# Altium schematic symbol library NSC Audio.SchLib: 691 symbols (part 1 of 18)
Pins are listed as number, name and electrical type; pins without a type are passive.

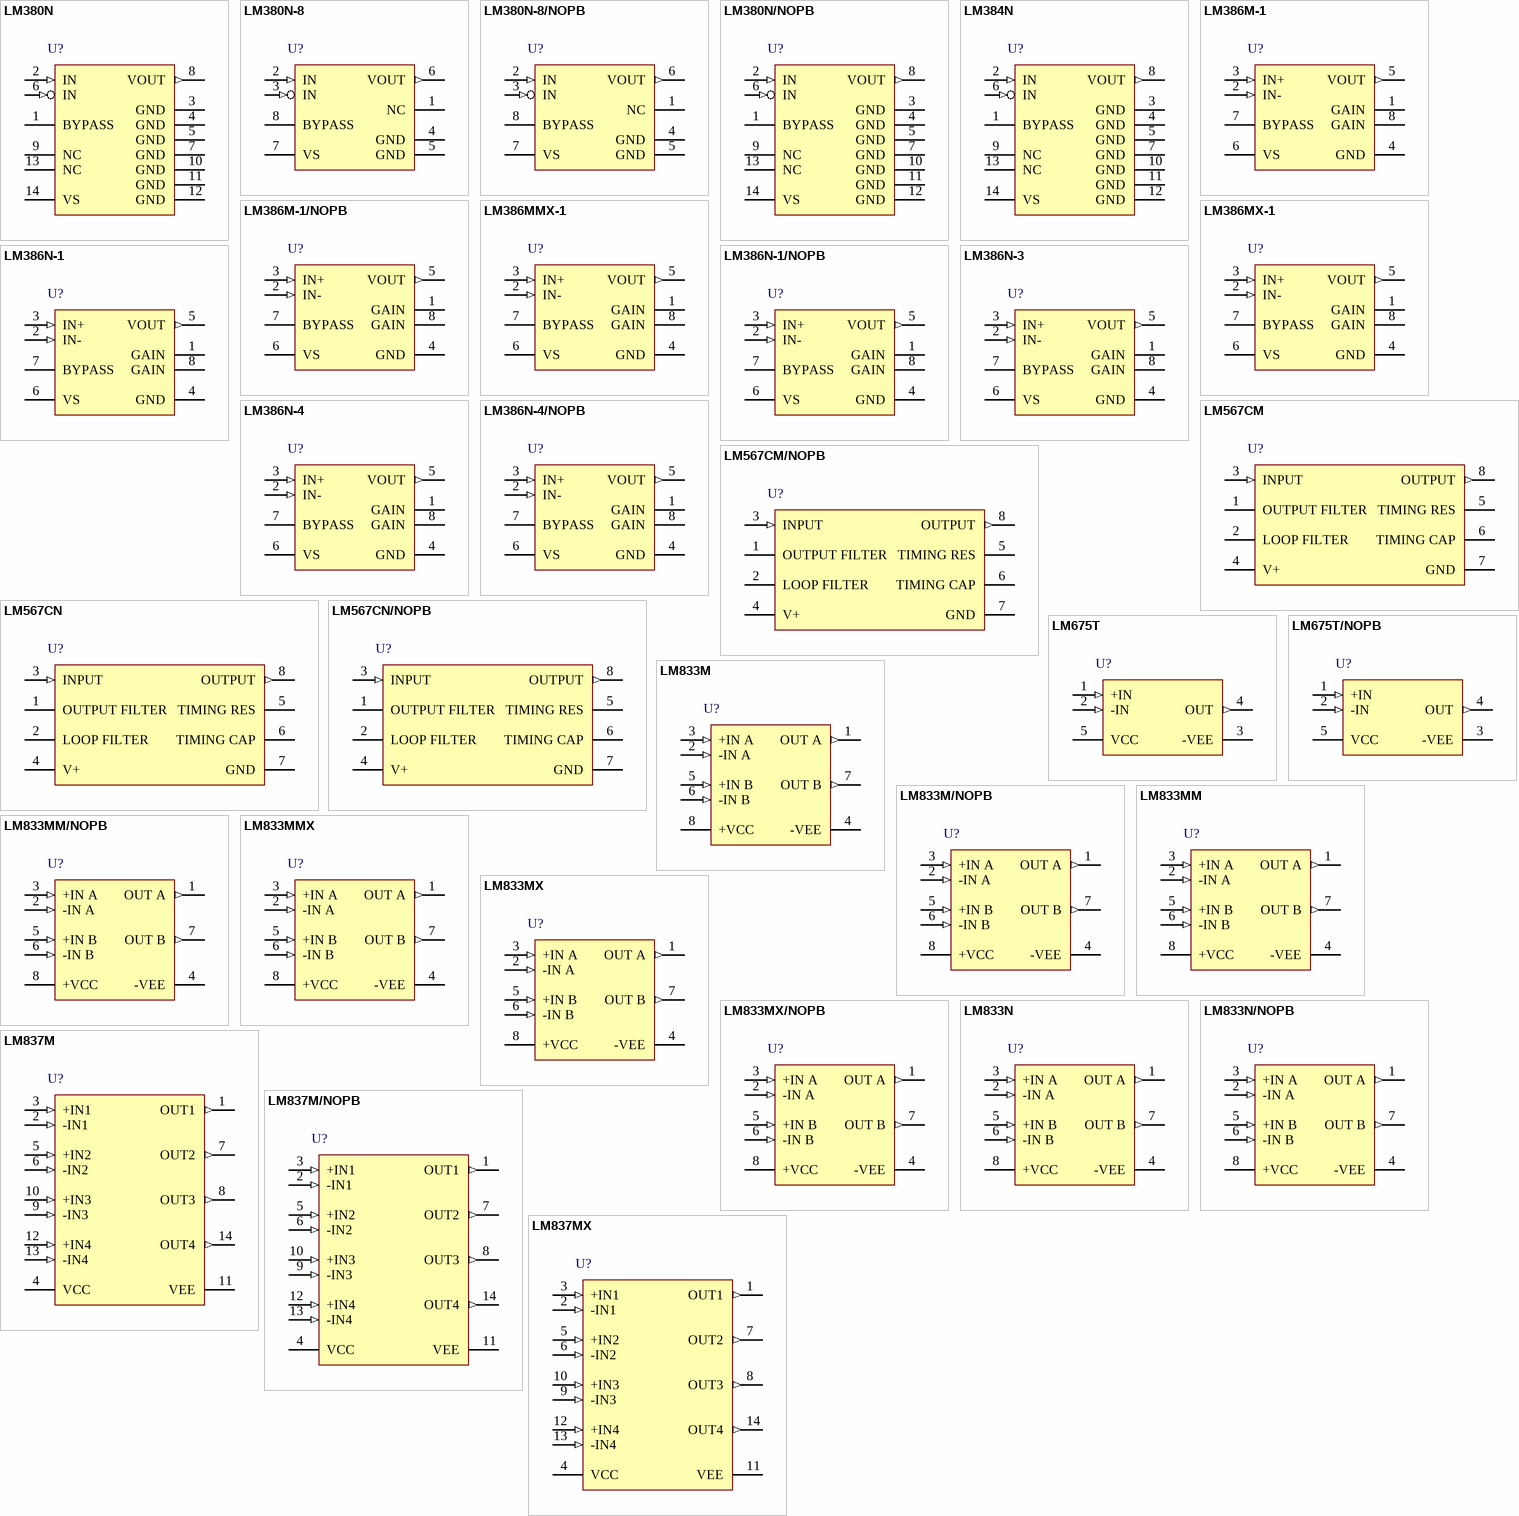
[diagram p0: symbols LM380N to LM837MX]

## LM380N
designator U?
2.5W Audio Power Amplifier, 14-pin MDIP; PartNumber: LM380N; Manufacturer: National Semiconductor; PackageTopMarking: NSUZXYYTTE#*LM380N; PowerWise: N; CompType: Audio IC; Published: 4-Dec-2008; DatasheetVersion: Aug-2000; PackageVersion: revG, May-2006; PackageReference: N14A; Publisher: Altium Limited; PackageDescription: MDIP, .750 x .250 x.130in, 14 Lead, .100in Pitch; Supplier 1: Farnell; Supplier Part Number 1: 9488308; RoHS: N; PinCount: 14; Code_JEDEC: MS-001-AA; ComponentLink1Description: LM380 Datasheet; ComponentLink1URL: http://www.national.com/ds/LM/LM380.pdf; ComponentLink2Description: LM380 Web Page; ComponentLink2URL: http://www.national.com/pf/LM/LM380.html; ComponentLink3Description: N14A Package Page; ComponentLink3URL: http://www.national.com/packaging/folders/n14a.html
footprint N14A (DIP, 14-Leads, Row Spacing 7.62mm, Pitch 2.54mm, Body 19.56x6.35mm)
pins: 1 BYPASS, 2 IN (in), 3 GND (power), 4 GND (power), 5 GND (power), 6 IN (in), 7 GND (power), 8 VOUT (out), 9 NC, 10 GND (power), 11 GND (power), 12 GND (power), 13 NC, 14 VS (power)

## LM380N-8
designator U?
2.5W Audio Power Amplifier, 8-pin MDIP; PartNumber: LM380N-8; Manufacturer: National Semiconductor; PackageTopMarking: NSUZXYTTE#*LM*380N-8; PowerWise: N; CompType: Audio IC; Published: 4-Dec-2008; DatasheetVersion: Aug-2000; PackageVersion: revG, May-2006; PackageReference: N08E; Publisher: Altium Limited; PackageDescription: MDIP, .365 x .250 x .130in, 8 Lead, .100in Pitch; Supplier 1: Farnell; Supplier Part Number 1: 9488294; RoHS: N; PinCount: 8; Code_JEDEC: MS-001-BA; ComponentLink1Description: LM380 Datasheet; ComponentLink1URL: http://www.national.com/ds/LM/LM380.pdf; ComponentLink2Description: LM380 Web Page; ComponentLink2URL: http://www.national.com/pf/LM/LM380.html; ComponentLink3Description: N08E Package Page; ComponentLink3URL: http://www.national.com/packaging/folders/n08e.html
footprint N08E (DIP, 8-Leads, Row Spacing 7.62mm, Pitch 2.54mm, Body 9.91x6.35mm)
pins: 1 NC, 2 IN (in), 3 IN (in), 4 GND (power), 5 GND (power), 6 VOUT (out), 7 VS (power), 8 BYPASS

## LM380N-8/NOPB
designator U?
2.5W Audio Power Amplifier, 8-pin MDIP, Pb-Free; PartNumber: LM380N-8/NOPB; Manufacturer: National Semiconductor; PackageTopMarking: NSUZXYTTE#*LM*380N-8; PowerWise: N; CompType: Audio IC; Published: 1-Mar-2010; DatasheetVersion: Aug-2000; PackageVersion: revG, May-2006; PackageReference: N08E; Publisher: Altium Limited; PackageDescription: MDIP, .365 x .250 x .130in, 8 Lead, .100in Pitch; Supplier 1: Digi-Key; Supplier Part Number 1: LM380N-8-ND; RoHS: Y; PinCount: 8; Code_JEDEC: MS-001-BA; ComponentLink1Description: LM380 Datasheet; ComponentLink1URL: http://www.national.com/ds/LM/LM380.pdf; ComponentLink2Description: LM380 Web Page; ComponentLink2URL: http://www.national.com/pf/LM/LM380.html; ComponentLink3Description: N08E Package Page; ComponentLink3URL: http://www.national.com/packaging/folders/n08e.html
footprint N08E (DIP, 8-Leads, Row Spacing 7.62mm, Pitch 2.54mm, Body 9.91x6.35mm)
pins: 1 NC, 2 IN (in), 3 IN (in), 4 GND (power), 5 GND (power), 6 VOUT (out), 7 VS (power), 8 BYPASS

## LM380N/NOPB
designator U?
2.5W Audio Power Amplifier, 14-pin MDIP, Pb-Free; PartNumber: LM380N/NOPB; Manufacturer: National Semiconductor; PackageTopMarking: NSUZXYYTTE#*LM380N; PowerWise: N; CompType: Audio IC; Published: 1-Mar-2010; DatasheetVersion: Aug-2000; PackageVersion: revG, May-2006; PackageReference: N14A; Publisher: Altium Limited; PackageDescription: MDIP, .750 x .250 x.130in, 14 Lead, .100in Pitch; Supplier 1: Digi-Key; Supplier Part Number 1: LM380N-ND; Supplier 2: Farnell; Supplier Part Number 2: 1179738; RoHS: Y; PinCount: 14; Code_JEDEC: MS-001-AA; ComponentLink1Description: LM380 Datasheet; ComponentLink1URL: http://www.national.com/ds/LM/LM380.pdf; ComponentLink2Description: LM380 Web Page; ComponentLink2URL: http://www.national.com/pf/LM/LM380.html; ComponentLink3Description: N14A Package Page; ComponentLink3URL: http://www.national.com/packaging/folders/n14a.html
footprint N14A (DIP, 14-Leads, Row Spacing 7.62mm, Pitch 2.54mm, Body 19.56x6.35mm)
pins: 1 BYPASS, 2 IN (in), 3 GND (power), 4 GND (power), 5 GND (power), 6 IN (in), 7 GND (power), 8 VOUT (out), 9 NC, 10 GND (power), 11 GND (power), 12 GND (power), 13 NC, 14 VS (power)

## LM384N
designator U?
5-W Audio Power Amplifier, 14-pin MDIP; PartNumber: LM384N; Manufacturer: National Semiconductor; PackageTopMarking: NSUZXYYTTE#*LM384N; PowerWise: N; CompType: Audio IC; Published: 4-Dec-2008; DatasheetVersion: Aug-2000; PackageVersion: revG, May-2006; PackageReference: N14A; Publisher: Altium Limited; PackageDescription: MDIP, .750 x .250 x.130in, 14 Lead, .100in Pitch; Supplier 1: Farnell; Supplier Part Number 1: 9488316; RoHS: N; PinCount: 14; Code_JEDEC: MS-001-AA; ComponentLink1Description: LM384 Datasheet; ComponentLink1URL: http://www.national.com/ds/LM/LM384.pdf; ComponentLink2Description: LM384 Web Page; ComponentLink2URL: http://www.national.com/pf/LM/LM384.html; ComponentLink3Description: N14A Package Page; ComponentLink3URL: http://www.national.com/packaging/folders/n14a.html
footprint N14A (DIP, 14-Leads, Row Spacing 7.62mm, Pitch 2.54mm, Body 19.56x6.35mm)
pins: 1 BYPASS, 2 IN (in), 3 GND (power), 4 GND (power), 5 GND (power), 6 IN (in), 7 GND (power), 8 VOUT (out), 9 NC, 10 GND (power), 11 GND (power), 12 GND (power), 13 NC, 14 VS (power)

## LM386M-1
designator U?
Low Voltage Audio Power Amplifier, 8-pin Narrow SOIC; PartNumber: LM386M-1; Manufacturer: National Semiconductor; PackageTopMarking: NSZXTT*LM386*M-1; PowerWise: N; CompType: Audio IC; Published: 4-Dec-2008; DatasheetVersion: Aug-2000; PackageVersion: revM, May-2009; PackageReference: M08A; Publisher: Altium Limited; PackageDescription: SOIC Narrow, 4.9 x 3.9 x 1.45mm, 8 Lead, 1.27mm Pitch; Supplier 1: Farnell; Supplier Part Number 1: 9488324; RoHS: N; PinCount: 8; Code_JEDEC: MS-012-AA; Code_IPC: SOIC127P600-8; ComponentLink1Description: LM386 Datasheet; ComponentLink1URL: http://www.national.com/ds/LM/LM386.pdf; ComponentLink2Description: LM386 Web Page; ComponentLink2URL: http://www.national.com/pf/LM/LM386.html; ComponentLink3Description: M08A Package Page; ComponentLink3URL: http://www.national.com/packaging/folders/m08a.html
footprint M08A_N (SOIC, 8-Leads, Body 4.9x3.9mm, Pitch 1.27mm, IPC Medium Density)
footprint M08A_L (SOIC, 8-Leads, Body 4.9x3.9mm, Pitch 1.27mm, IPC High Density)
footprint M08A_M (SOIC, 8-Leads, Body 4.9x3.9mm, Pitch 1.27mm, IPC Low Density)
pins: 1 GAIN, 2 IN- (in), 3 IN+ (in), 4 GND (power), 5 VOUT (out), 6 VS (power), 7 BYPASS, 8 GAIN

## LM386M-1/NOPB
designator U?
Low Voltage Audio Power Amplifier, 8-pin Narrow SOIC, Pb-Free; PartNumber: LM386M-1/NOPB; Manufacturer: National Semiconductor; PackageTopMarking: NSZXTT*LM386*M-1; PowerWise: N; CompType: Audio IC; Published: 1-Mar-2010; DatasheetVersion: Aug-2000; PackageVersion: revM, May-2009; PackageReference: M08A; Publisher: Altium Limited; PackageDescription: SOIC Narrow, 4.9 x 3.9 x 1.45mm, 8 Lead, 1.27mm Pitch; Supplier 1: Digi-Key; Supplier Part Number 1: LM386M-1-ND; Supplier 2: Farnell; Supplier Part Number 2: 1564701; RoHS: Y; PinCount: 8; Code_JEDEC: MS-012-AA; Code_IPC: SOIC127P600-8; ComponentLink1Description: LM386 Datasheet; ComponentLink1URL: http://www.national.com/ds/LM/LM386.pdf; ComponentLink2Description: LM386 Web Page; ComponentLink2URL: http://www.national.com/pf/LM/LM386.html; ComponentLink3Description: M08A Package Page; ComponentLink3URL: http://www.national.com/packaging/folders/m08a.html
footprint M08A_N (SOIC, 8-Leads, Body 4.9x3.9mm, Pitch 1.27mm, IPC Medium Density)
footprint M08A_L (SOIC, 8-Leads, Body 4.9x3.9mm, Pitch 1.27mm, IPC High Density)
footprint M08A_M (SOIC, 8-Leads, Body 4.9x3.9mm, Pitch 1.27mm, IPC Low Density)
pins: 1 GAIN, 2 IN- (in), 3 IN+ (in), 4 GND (power), 5 VOUT (out), 6 VS (power), 7 BYPASS, 8 GAIN

## LM386MMX-1
designator U?
Low Voltage Audio Power Amplifier, 8-pin Mini SOIC; PartNumber: LM386MMX-1; Manufacturer: National Semiconductor; PackageTopMarking: ZXTT*Z86; PowerWise: N; CompType: Audio IC; Published: 4-Dec-2008; DatasheetVersion: Aug-2000; PackageVersion: revF, Apr-2008; PackageReference: MUA08A; Publisher: Altium Limited; PackageDescription: MINI SOIC, .118 x .118 x .034in, 8 Lead, .0256in Pitch; RoHS: N; PinCount: 8; Code_JEDEC: MO-187-AA; ComponentLink1Description: LM386 Datasheet; ComponentLink1URL: http://www.national.com/ds/LM/LM386.pdf; ComponentLink2Description: LM386 Web Page; ComponentLink2URL: http://www.national.com/pf/LM/LM386.html; ComponentLink3Description: MUA08A Package Page; ComponentLink3URL: http://www.national.com/packaging/folders/mua08a.html
footprint MUA08A_N (TSOP, 8-Leads, Body 3x3mm, Pitch 0.65mm, IPC Medium Density)
footprint MUA08A_L (TSOP, 8-Leads, Body 3x3mm, Pitch 0.65mm, IPC High Density)
footprint MUA08A_M (TSOP, 8-Leads, Body 3x3mm, Pitch 0.65mm, IPC Low Density)
pins: 1 GAIN, 2 IN- (in), 3 IN+ (in), 4 GND (power), 5 VOUT (out), 6 VS (power), 7 BYPASS, 8 GAIN

## LM386MX-1
designator U?
Low Voltage Audio Power Amplifier, 8-pin Narrow SOIC; PartNumber: LM386MX-1; Manufacturer: National Semiconductor; PackageTopMarking: NSZXTT*LM386*M-1; PowerWise: N; CompType: Audio IC; Published: 1-Mar-2010; DatasheetVersion: Aug-2000; PackageVersion: revM, May-2009; PackageReference: M08A; Publisher: Altium Limited; PackageDescription: SOIC Narrow, 4.9 x 3.9 x 1.45mm, 8 Lead, 1.27mm Pitch; RoHS: N; PinCount: 8; Code_JEDEC: MS-012-AA; Code_IPC: SOIC127P600-8; ComponentLink1Description: LM386 Datasheet; ComponentLink1URL: http://www.national.com/ds/LM/LM386.pdf; ComponentLink2Description: LM386 Web Page; ComponentLink2URL: http://www.national.com/pf/LM/LM386.html; ComponentLink3Description: M08A Package Page; ComponentLink3URL: http://www.national.com/packaging/folders/m08a.html
footprint M08A_N (SOIC, 8-Leads, Body 4.9x3.9mm, Pitch 1.27mm, IPC Medium Density)
footprint M08A_L (SOIC, 8-Leads, Body 4.9x3.9mm, Pitch 1.27mm, IPC High Density)
footprint M08A_M (SOIC, 8-Leads, Body 4.9x3.9mm, Pitch 1.27mm, IPC Low Density)
pins: 1 GAIN, 2 IN- (in), 3 IN+ (in), 4 GND (power), 5 VOUT (out), 6 VS (power), 7 BYPASS, 8 GAIN

## LM386N-1
designator U?
Low Voltage Audio Power Amplifier, 8-pin MDIP; PartNumber: LM386N-1; Manufacturer: National Semiconductor; PackageTopMarking: NSUZXYTTE#*LM*386N-1; PowerWise: N; CompType: Audio IC; Published: 4-Dec-2008; DatasheetVersion: Aug-2000; PackageVersion: revG, May-2006; PackageReference: N08E; Publisher: Altium Limited; PackageDescription: MDIP, .365 x .250 x .130in, 8 Lead, .100in Pitch; Supplier 1: Farnell; Supplier Part Number 1: 9488332; RoHS: N; PinCount: 8; Code_JEDEC: MS-001-BA; ComponentLink1Description: LM386 Datasheet; ComponentLink1URL: http://www.national.com/ds/LM/LM386.pdf; ComponentLink2Description: LM386 Web Page; ComponentLink2URL: http://www.national.com/pf/LM/LM386.html; ComponentLink3Description: N08E Package Page; ComponentLink3URL: http://www.national.com/packaging/folders/n08e.html
footprint N08E (DIP, 8-Leads, Row Spacing 7.62mm, Pitch 2.54mm, Body 9.91x6.35mm)
pins: 1 GAIN, 2 IN- (in), 3 IN+ (in), 4 GND (power), 5 VOUT (out), 6 VS (power), 7 BYPASS, 8 GAIN

## LM386N-1/NOPB
designator U?
Low Voltage Audio Power Amplifier, 8-pin MDIP, Pb-Free; PartNumber: LM386N-1/NOPB; Manufacturer: National Semiconductor; PackageTopMarking: NSUZXYTTE#*LM*386N-1; PowerWise: N; CompType: Audio IC; Published: 1-Mar-2010; DatasheetVersion: Aug-2000; PackageVersion: revG, May-2006; PackageReference: N08E; Publisher: Altium Limited; PackageDescription: MDIP, .365 x .250 x .130in, 8 Lead, .100in Pitch; Supplier 1: Digi-Key; Supplier Part Number 1: LM386N-1-ND; Supplier 2: Farnell; Supplier Part Number 2: 1564702; RoHS: Y; PinCount: 8; Code_JEDEC: MS-001-BA; ComponentLink1Description: LM386 Datasheet; ComponentLink1URL: http://www.national.com/ds/LM/LM386.pdf; ComponentLink2Description: LM386 Web Page; ComponentLink2URL: http://www.national.com/pf/LM/LM386.html; ComponentLink3Description: N08E Package Page; ComponentLink3URL: http://www.national.com/packaging/folders/n08e.html
footprint N08E (DIP, 8-Leads, Row Spacing 7.62mm, Pitch 2.54mm, Body 9.91x6.35mm)
pins: 1 GAIN, 2 IN- (in), 3 IN+ (in), 4 GND (power), 5 VOUT (out), 6 VS (power), 7 BYPASS, 8 GAIN

## LM386N-3
designator U?
Low Voltage Audio Power Amplifier, 8-pin MDIP; PartNumber: LM386N-3; Manufacturer: National Semiconductor; PackageTopMarking: NSUZXYTTE#*LM*386N-3; PowerWise: N; CompType: Audio IC; Published: 4-Dec-2008; DatasheetVersion: Aug-2000; PackageVersion: revG, May-2006; PackageReference: N08E; Publisher: Altium Limited; PackageDescription: MDIP, .365 x .250 x .130in, 8 Lead, .100in Pitch; Supplier 1: Farnell; Supplier Part Number 1: 9488340; RoHS: N; PinCount: 8; Code_JEDEC: MS-001-BA; ComponentLink1Description: LM386 Datasheet; ComponentLink1URL: http://www.national.com/ds/LM/LM386.pdf; ComponentLink2Description: LM386 Web Page; ComponentLink2URL: http://www.national.com/pf/LM/LM386.html; ComponentLink3Description: N08E Package Page; ComponentLink3URL: http://www.national.com/packaging/folders/n08e.html
footprint N08E (DIP, 8-Leads, Row Spacing 7.62mm, Pitch 2.54mm, Body 9.91x6.35mm)
pins: 1 GAIN, 2 IN- (in), 3 IN+ (in), 4 GND (power), 5 VOUT (out), 6 VS (power), 7 BYPASS, 8 GAIN

## LM386N-4
designator U?
Low Voltage Audio Power Amplifier, 8-pin MDIP; PartNumber: LM386N-4; Manufacturer: National Semiconductor; PackageTopMarking: NSUZXYTTE#*LM*386N-4; PowerWise: N; CompType: Audio IC; Published: 4-Dec-2008; DatasheetVersion: Aug-2000; PackageVersion: revG, May-2006; PackageReference: N08E; Publisher: Altium Limited; PackageDescription: MDIP, .365 x .250 x .130in, 8 Lead, .100in Pitch; Supplier 1: Farnell; Supplier Part Number 1: 9488359; RoHS: N; PinCount: 8; Code_JEDEC: MS-001-BA; ComponentLink1Description: LM386 Datasheet; ComponentLink1URL: http://www.national.com/ds/LM/LM386.pdf; ComponentLink2Description: LM386 Web Page; ComponentLink2URL: http://www.national.com/pf/LM/LM386.html; ComponentLink3Description: N08E Package Page; ComponentLink3URL: http://www.national.com/packaging/folders/n08e.html
footprint N08E (DIP, 8-Leads, Row Spacing 7.62mm, Pitch 2.54mm, Body 9.91x6.35mm)
pins: 1 GAIN, 2 IN- (in), 3 IN+ (in), 4 GND (power), 5 VOUT (out), 6 VS (power), 7 BYPASS, 8 GAIN

## LM386N-4/NOPB
designator U?
Low Voltage Audio Power Amplifier, 8-pin MDIP, Pb-Free; PartNumber: LM386N-4/NOPB; Manufacturer: National Semiconductor; PackageTopMarking: NSUZXYTTE#*LM*386N-4; PowerWise: N; CompType: Audio IC; Published: 1-Mar-2010; DatasheetVersion: Aug-2000; PackageVersion: revG, May-2006; PackageReference: N08E; Publisher: Altium Limited; PackageDescription: MDIP, .365 x .250 x .130in, 8 Lead, .100in Pitch; Supplier 1: Digi-Key; Supplier Part Number 1: LM386N-4-ND; Supplier 2: Farnell; Supplier Part Number 2: 1184987; RoHS: Y; PinCount: 8; Code_JEDEC: MS-001-BA; ComponentLink1Description: LM386 Datasheet; ComponentLink1URL: http://www.national.com/ds/LM/LM386.pdf; ComponentLink2Description: LM386 Web Page; ComponentLink2URL: http://www.national.com/pf/LM/LM386.html; ComponentLink3Description: N08E Package Page; ComponentLink3URL: http://www.national.com/packaging/folders/n08e.html
footprint N08E (DIP, 8-Leads, Row Spacing 7.62mm, Pitch 2.54mm, Body 9.91x6.35mm)
pins: 1 GAIN, 2 IN- (in), 3 IN+ (in), 4 GND (power), 5 VOUT (out), 6 VS (power), 7 BYPASS, 8 GAIN

## LM567CM
designator U?
Tone Decoder, 8-pin Narrow SOIC; PartNumber: LM567CM; Manufacturer: National Semiconductor; PackageTopMarking: NSZXTT*LM*567CM; PowerWise: N; CompType: Audio IC; Published: 4-Dec-2008; DatasheetVersion: Feb-2003; PackageVersion: revM, May-2009; PackageReference: M08A; Publisher: Altium Limited; PackageDescription: SOIC Narrow, 4.9 x 3.9 x 1.45mm, 8 Lead, 1.27mm Pitch; Supplier 1: Digi-Key; Supplier Part Number 1: LM567CM-ND; RoHS: N; PinCount: 8; Code_JEDEC: MS-012-AA; Code_IPC: SOIC127P600-8; ComponentLink1Description: LM567C Datasheet; ComponentLink1URL: http://www.national.com/ds/LM/LM567C.pdf; ComponentLink2Description: LM567C Web Page; ComponentLink2URL: http://www.national.com/pf/LM/LM567C.html; ComponentLink3Description: M08A Package Page; ComponentLink3URL: http://www.national.com/packaging/folders/m08a.html
footprint M08A_N (SOIC, 8-Leads, Body 4.9x3.9mm, Pitch 1.27mm, IPC Medium Density)
footprint M08A_L (SOIC, 8-Leads, Body 4.9x3.9mm, Pitch 1.27mm, IPC High Density)
footprint M08A_M (SOIC, 8-Leads, Body 4.9x3.9mm, Pitch 1.27mm, IPC Low Density)
pins: 1 OUTPUT FILTER, 2 LOOP FILTER, 3 INPUT (in), 4 V+ (power), 5 TIMING RES, 6 TIMING CAP, 7 GND (power), 8 OUTPUT (out)

## LM567CM/NOPB
designator U?
Tone Decoder, 8-pin Narrow SOIC, Pb-Free; PartNumber: LM567CM/NOPB; Manufacturer: National Semiconductor; PackageTopMarking: NSZXTT*LM*567CM; PowerWise: N; CompType: Audio IC; Published: 1-Mar-2010; DatasheetVersion: Feb-2003; PackageVersion: revM, May-2009; PackageReference: M08A; Publisher: Altium Limited; PackageDescription: SOIC Narrow, 4.9 x 3.9 x 1.45mm, 8 Lead, 1.27mm Pitch; Supplier 1: Digi-Key; Supplier Part Number 1: LM567CM/NOPB-ND; Supplier 2: Farnell; Supplier Part Number 2: 1469020; RoHS: Y; PinCount: 8; Code_JEDEC: MS-012-AA; Code_IPC: SOIC127P600-8; ComponentLink1Description: LM567C Datasheet; ComponentLink1URL: http://www.national.com/ds/LM/LM567C.pdf; ComponentLink2Description: LM567C Web Page; ComponentLink2URL: http://www.national.com/pf/LM/LM567C.html; ComponentLink3Description: M08A Package Page; ComponentLink3URL: http://www.national.com/packaging/folders/m08a.html
footprint M08A_N (SOIC, 8-Leads, Body 4.9x3.9mm, Pitch 1.27mm, IPC Medium Density)
footprint M08A_L (SOIC, 8-Leads, Body 4.9x3.9mm, Pitch 1.27mm, IPC High Density)
footprint M08A_M (SOIC, 8-Leads, Body 4.9x3.9mm, Pitch 1.27mm, IPC Low Density)
pins: 1 OUTPUT FILTER, 2 LOOP FILTER, 3 INPUT (in), 4 V+ (power), 5 TIMING RES, 6 TIMING CAP, 7 GND (power), 8 OUTPUT (out)

## LM567CN
designator U?
Tone Decoder, 8-pin MDIP; PartNumber: LM567CN; Manufacturer: National Semiconductor; PackageTopMarking: NSUZXYTTE#*LM*567CN; PowerWise: N; CompType: Audio IC; Published: 4-Dec-2008; DatasheetVersion: Feb-2003; PackageVersion: revG, May-2006; PackageReference: N08E; Publisher: Altium Limited; PackageDescription: MDIP, .365 x .250 x .130in, 8 Lead, .100in Pitch; Supplier 1: Farnell; Supplier Part Number 1: 9488367; RoHS: N; PinCount: 8; Code_JEDEC: MS-001-BA; ComponentLink1Description: LM567C Datasheet; ComponentLink1URL: http://www.national.com/ds/LM/LM567C.pdf; ComponentLink2Description: LM567C Web Page; ComponentLink2URL: http://www.national.com/pf/LM/LM567C.html; ComponentLink3Description: N08E Package Page; ComponentLink3URL: http://www.national.com/packaging/folders/n08e.html
footprint N08E (DIP, 8-Leads, Row Spacing 7.62mm, Pitch 2.54mm, Body 9.91x6.35mm)
pins: 1 OUTPUT FILTER, 2 LOOP FILTER, 3 INPUT (in), 4 V+ (power), 5 TIMING RES, 6 TIMING CAP, 7 GND (power), 8 OUTPUT (out)

## LM567CN/NOPB
designator U?
Tone Decoder, 8-pin MDIP, Pb-Free; PartNumber: LM567CN/NOPB; Manufacturer: National Semiconductor; PackageTopMarking: NSUZXYTTE#*LM*567CN; PowerWise: N; CompType: Audio IC; Published: 1-Mar-2010; DatasheetVersion: Feb-2003; PackageVersion: revG, May-2006; PackageReference: N08E; Publisher: Altium Limited; PackageDescription: MDIP, .365 x .250 x .130in, 8 Lead, .100in Pitch; Supplier 1: Digi-Key; Supplier Part Number 1: LM567CN-ND; Supplier 2: Farnell; Supplier Part Number 2: 1496187; RoHS: Y; PinCount: 8; Code_JEDEC: MS-001-BA; ComponentLink1Description: LM567C Datasheet; ComponentLink1URL: http://www.national.com/ds/LM/LM567C.pdf; ComponentLink2Description: LM567C Web Page; ComponentLink2URL: http://www.national.com/pf/LM/LM567C.html; ComponentLink3Description: N08E Package Page; ComponentLink3URL: http://www.national.com/packaging/folders/n08e.html
footprint N08E (DIP, 8-Leads, Row Spacing 7.62mm, Pitch 2.54mm, Body 9.91x6.35mm)
pins: 1 OUTPUT FILTER, 2 LOOP FILTER, 3 INPUT (in), 4 V+ (power), 5 TIMING RES, 6 TIMING CAP, 7 GND (power), 8 OUTPUT (out)

## LM675T
designator U?
Power Operational Amplifier, 5-pin TO-220; PartNumber: LM675T; Manufacturer: National Semiconductor; PackageTopMarking: NSUZXYTTE#*LM675T; PowerWise: N; CompType: Audio IC; Published: 4-Dec-2008; DatasheetVersion: May-1999; PackageVersion: revA, Oct-1989; PackageReference: T05D; Publisher: Altium Limited; PackageDescription: TO-220, Molded, Stagger Bend, 5 Lead; Supplier 1: Farnell; Supplier Part Number 1: 1523832; Supplier 2: Farnell; Supplier Part Number 2: 9486771; RoHS: N; PinCount: 5; ComponentLink1Description: LM675 Datasheet; ComponentLink1URL: http://www.national.com/ds/LM/LM675.pdf; ComponentLink2Description: LM675 Web Page; ComponentLink2URL: http://www.national.com/pf/LM/LM675.html; ComponentLink3Description: T05D Package Page; ComponentLink3URL: http://www.national.com/packaging/folders/t05d.html
footprint T05D (TO, Thru-Hole, Vertical, Heatsink Mounted; 5 Bent Staggered Leads; Body 10.3x8.6x4.6mm, Pitch 1.7 mm)
pins: 1 +IN (in), 2 -IN (in), 3 -VEE (power), 4 OUT (out), 5 VCC (power)

## LM675T/NOPB
designator U?
Power Operational Amplifier, 5-pin TO-220, Pb-Free; PartNumber: LM675T/NOPB; Manufacturer: National Semiconductor; PackageTopMarking: NSUZXYTTE#*LM675T; PowerWise: N; CompType: Audio IC; Published: 1-Mar-2010; DatasheetVersion: May-1999; PackageVersion: revA, Oct-1989; PackageReference: T05D; Publisher: Altium Limited; PackageDescription: TO-220, Molded, Stagger Bend, 5 Lead; Supplier 1: Digi-Key; Supplier Part Number 1: LM675T-ND; Supplier 2: Farnell; Supplier Part Number 2: 1468931; RoHS: Y; PinCount: 5; ComponentLink1Description: LM675 Datasheet; ComponentLink1URL: http://www.national.com/ds/LM/LM675.pdf; ComponentLink2Description: LM675 Web Page; ComponentLink2URL: http://www.national.com/pf/LM/LM675.html; ComponentLink3Description: T05D Package Page; ComponentLink3URL: http://www.national.com/packaging/folders/t05d.html
footprint T05D (TO, Thru-Hole, Vertical, Heatsink Mounted; 5 Bent Staggered Leads; Body 10.3x8.6x4.6mm, Pitch 1.7 mm)
pins: 1 +IN (in), 2 -IN (in), 3 -VEE (power), 4 OUT (out), 5 VCC (power)

## LM833M
designator U?
Dual Audio Operational Amplifier, 8-pin Narrow SOIC; PartNumber: LM833M; Manufacturer: National Semiconductor; PackageTopMarking: NSZXTT*LM833*M; PowerWise: N; CompType: Audio IC; Published: 4-Dec-2008; DatasheetVersion: Jan-2003; PackageVersion: revM, May-2009; PackageReference: M08A; Publisher: Altium Limited; PackageDescription: SOIC Narrow, 4.9 x 3.9 x 1.45mm, 8 Lead, 1.27mm Pitch; Supplier 1: Farnell; Supplier Part Number 1: 4467115; RoHS: N; PinCount: 8; Code_JEDEC: MS-012-AA; Code_IPC: SOIC127P600-8; ComponentLink1Description: LM833 Datasheet; ComponentLink1URL: http://www.national.com/ds/LM/LM833.pdf; ComponentLink2Description: LM833 Web Page; ComponentLink2URL: http://www.national.com/pf/LM/LM833.html; ComponentLink3Description: M08A Package Page; ComponentLink3URL: http://www.national.com/packaging/folders/m08a.html
footprint M08A_N (SOIC, 8-Leads, Body 4.9x3.9mm, Pitch 1.27mm, IPC Medium Density)
footprint M08A_L (SOIC, 8-Leads, Body 4.9x3.9mm, Pitch 1.27mm, IPC High Density)
footprint M08A_M (SOIC, 8-Leads, Body 4.9x3.9mm, Pitch 1.27mm, IPC Low Density)
pins: 1 OUT A (out), 2 -IN A (in), 3 +IN A (in), 4 -VEE (power), 5 +IN B (in), 6 -IN B (in), 7 OUT B (out), 8 +VCC (power)

## LM833M/NOPB
designator U?
Dual Audio Operational Amplifier, 8-pin Narrow SOIC, Pb-Free; PartNumber: LM833M/NOPB; Manufacturer: National Semiconductor; PackageTopMarking: NSZXTT*LM833*M; PowerWise: N; CompType: Audio IC; Published: 1-Mar-2010; DatasheetVersion: Jan-2003; PackageVersion: revM, May-2009; PackageReference: M08A; Publisher: Altium Limited; PackageDescription: SOIC Narrow, 4.9 x 3.9 x 1.45mm, 8 Lead, 1.27mm Pitch; Supplier 1: Digi-Key; Supplier Part Number 1: LM833M-ND; Supplier 2: Farnell; Supplier Part Number 2: 1564669; RoHS: Y; PinCount: 8; Code_JEDEC: MS-012-AA; Code_IPC: SOIC127P600-8; ComponentLink1Description: LM833 Datasheet; ComponentLink1URL: http://www.national.com/ds/LM/LM833.pdf; ComponentLink2Description: LM833 Web Page; ComponentLink2URL: http://www.national.com/pf/LM/LM833.html; ComponentLink3Description: M08A Package Page; ComponentLink3URL: http://www.national.com/packaging/folders/m08a.html
footprint M08A_N (SOIC, 8-Leads, Body 4.9x3.9mm, Pitch 1.27mm, IPC Medium Density)
footprint M08A_L (SOIC, 8-Leads, Body 4.9x3.9mm, Pitch 1.27mm, IPC High Density)
footprint M08A_M (SOIC, 8-Leads, Body 4.9x3.9mm, Pitch 1.27mm, IPC Low Density)
pins: 1 OUT A (out), 2 -IN A (in), 3 +IN A (in), 4 -VEE (power), 5 +IN B (in), 6 -IN B (in), 7 OUT B (out), 8 +VCC (power)

## LM833MM
designator U?
Dual Audio Operational Amplifier, 8-pin Mini SOIC; PartNumber: LM833MM; Manufacturer: National Semiconductor; PackageTopMarking: ZXTT*Z83; PowerWise: N; CompType: Audio IC; Published: 4-Dec-2008; DatasheetVersion: Jan-2003; PackageVersion: revF, Apr-2008; PackageReference: MUA08A; Publisher: Altium Limited; PackageDescription: MINI SOIC, .118 x .118 x .034in, 8 Lead, .0256in Pitch; RoHS: N; PinCount: 8; Code_JEDEC: MO-187-AA; ComponentLink1Description: LM833 Datasheet; ComponentLink1URL: http://www.national.com/ds/LM/LM833.pdf; ComponentLink2Description: LM833 Web Page; ComponentLink2URL: http://www.national.com/pf/LM/LM833.html; ComponentLink3Description: MUA08A Package Page; ComponentLink3URL: http://www.national.com/packaging/folders/mua08a.html
footprint MUA08A_N (TSOP, 8-Leads, Body 3x3mm, Pitch 0.65mm, IPC Medium Density)
footprint MUA08A_L (TSOP, 8-Leads, Body 3x3mm, Pitch 0.65mm, IPC High Density)
footprint MUA08A_M (TSOP, 8-Leads, Body 3x3mm, Pitch 0.65mm, IPC Low Density)
pins: 1 OUT A (out), 2 -IN A (in), 3 +IN A (in), 4 -VEE (power), 5 +IN B (in), 6 -IN B (in), 7 OUT B (out), 8 +VCC (power)

## LM833MM/NOPB
designator U?
Dual Audio Operational Amplifier, 8-pin Mini SOIC, Pb-Free; PartNumber: LM833MM/NOPB; Manufacturer: National Semiconductor; PackageTopMarking: ZXTT*Z83; PowerWise: N; CompType: Audio IC; Published: 1-Mar-2010; DatasheetVersion: Jan-2003; PackageVersion: revF, Apr-2008; PackageReference: MUA08A; Publisher: Altium Limited; PackageDescription: MINI SOIC, .118 x .118 x .034in, 8 Lead, .0256in Pitch; Supplier 1: Digi-Key; Supplier Part Number 1: LM833MMTR-ND; Supplier 2: Digi-Key; Supplier Part Number 2: LM833MMCT-ND; Supplier 3: Digi-Key; Supplier Part Number 3: LM833MMDKR-ND; Supplier 4: Farnell; Supplier Part Number 4: 1694549; RoHS: Y; PinCount: 8; Code_JEDEC: MO-187-AA; ComponentLink1Description: LM833 Datasheet; ComponentLink1URL: http://www.national.com/ds/LM/LM833.pdf; ComponentLink2Description: LM833 Web Page; ComponentLink2URL: http://www.national.com/pf/LM/LM833.html; ComponentLink3Description: MUA08A Package Page; ComponentLink3URL: http://www.national.com/packaging/folders/mua08a.html
footprint MUA08A_N (TSOP, 8-Leads, Body 3x3mm, Pitch 0.65mm, IPC Medium Density)
footprint MUA08A_L (TSOP, 8-Leads, Body 3x3mm, Pitch 0.65mm, IPC High Density)
footprint MUA08A_M (TSOP, 8-Leads, Body 3x3mm, Pitch 0.65mm, IPC Low Density)
pins: 1 OUT A (out), 2 -IN A (in), 3 +IN A (in), 4 -VEE (power), 5 +IN B (in), 6 -IN B (in), 7 OUT B (out), 8 +VCC (power)

## LM833MMX
designator U?
Dual Audio Operational Amplifier, 8-pin Mini SOIC; PartNumber: LM833MMX; Manufacturer: National Semiconductor; PackageTopMarking: ZXTT*Z83; PowerWise: N; CompType: Audio IC; Published: 1-Mar-2010; DatasheetVersion: Jan-2003; PackageVersion: revF, Apr-2008; PackageReference: MUA08A; Publisher: Altium Limited; PackageDescription: MINI SOIC, .118 x .118 x .034in, 8 Lead, .0256in Pitch; RoHS: N; PinCount: 8; Code_JEDEC: MO-187-AA; ComponentLink1Description: LM833 Datasheet; ComponentLink1URL: http://www.national.com/ds/LM/LM833.pdf; ComponentLink2Description: LM833 Web Page; ComponentLink2URL: http://www.national.com/pf/LM/LM833.html; ComponentLink3Description: MUA08A Package Page; ComponentLink3URL: http://www.national.com/packaging/folders/mua08a.html
footprint MUA08A_N (TSOP, 8-Leads, Body 3x3mm, Pitch 0.65mm, IPC Medium Density)
footprint MUA08A_L (TSOP, 8-Leads, Body 3x3mm, Pitch 0.65mm, IPC High Density)
footprint MUA08A_M (TSOP, 8-Leads, Body 3x3mm, Pitch 0.65mm, IPC Low Density)
pins: 1 OUT A (out), 2 -IN A (in), 3 +IN A (in), 4 -VEE (power), 5 +IN B (in), 6 -IN B (in), 7 OUT B (out), 8 +VCC (power)

## LM833MX
designator U?
Dual Audio Operational Amplifier, 8-pin Narrow SOIC; PartNumber: LM833MX; Manufacturer: National Semiconductor; PackageTopMarking: NSZXTT*LM833*M; PowerWise: N; CompType: Audio IC; Published: 1-Mar-2010; DatasheetVersion: Jan-2003; PackageVersion: revM, May-2009; PackageReference: M08A; Publisher: Altium Limited; PackageDescription: SOIC Narrow, 4.9 x 3.9 x 1.45mm, 8 Lead, 1.27mm Pitch; RoHS: N; PinCount: 8; Code_JEDEC: MS-012-AA; Code_IPC: SOIC127P600-8; ComponentLink1Description: LM833 Datasheet; ComponentLink1URL: http://www.national.com/ds/LM/LM833.pdf; ComponentLink2Description: LM833 Web Page; ComponentLink2URL: http://www.national.com/pf/LM/LM833.html; ComponentLink3Description: M08A Package Page; ComponentLink3URL: http://www.national.com/packaging/folders/m08a.html
footprint M08A_N (SOIC, 8-Leads, Body 4.9x3.9mm, Pitch 1.27mm, IPC Medium Density)
footprint M08A_L (SOIC, 8-Leads, Body 4.9x3.9mm, Pitch 1.27mm, IPC High Density)
footprint M08A_M (SOIC, 8-Leads, Body 4.9x3.9mm, Pitch 1.27mm, IPC Low Density)
pins: 1 OUT A (out), 2 -IN A (in), 3 +IN A (in), 4 -VEE (power), 5 +IN B (in), 6 -IN B (in), 7 OUT B (out), 8 +VCC (power)

## LM833MX/NOPB
designator U?
Dual Audio Operational Amplifier, 8-pin Narrow SOIC, Pb-Free; PartNumber: LM833MX/NOPB; Manufacturer: National Semiconductor; PackageTopMarking: NSZXTT*LM833*M; PowerWise: N; CompType: Audio IC; Published: 1-Mar-2010; DatasheetVersion: Jan-2003; PackageVersion: revM, May-2009; PackageReference: M08A; Publisher: Altium Limited; PackageDescription: SOIC Narrow, 4.9 x 3.9 x 1.45mm, 8 Lead, 1.27mm Pitch; Supplier 1: Digi-Key; Supplier Part Number 1: LM833MXTR-ND; RoHS: Y; PinCount: 8; Code_JEDEC: MS-012-AA; Code_IPC: SOIC127P600-8; ComponentLink1Description: LM833 Datasheet; ComponentLink1URL: http://www.national.com/ds/LM/LM833.pdf; ComponentLink2Description: LM833 Web Page; ComponentLink2URL: http://www.national.com/pf/LM/LM833.html; ComponentLink3Description: M08A Package Page; ComponentLink3URL: http://www.national.com/packaging/folders/m08a.html
footprint M08A_N (SOIC, 8-Leads, Body 4.9x3.9mm, Pitch 1.27mm, IPC Medium Density)
footprint M08A_L (SOIC, 8-Leads, Body 4.9x3.9mm, Pitch 1.27mm, IPC High Density)
footprint M08A_M (SOIC, 8-Leads, Body 4.9x3.9mm, Pitch 1.27mm, IPC Low Density)
pins: 1 OUT A (out), 2 -IN A (in), 3 +IN A (in), 4 -VEE (power), 5 +IN B (in), 6 -IN B (in), 7 OUT B (out), 8 +VCC (power)

## LM833N
designator U?
Dual Audio Operational Amplifier, 8-pin MDIP; PartNumber: LM833N; Manufacturer: National Semiconductor; PackageTopMarking: NSUZXYTTE#*LM*833N; PowerWise: N; CompType: Audio IC; Published: 4-Dec-2008; DatasheetVersion: Jan-2003; PackageVersion: revG, May-2006; PackageReference: N08E; Publisher: Altium Limited; PackageDescription: MDIP, .365 x .250 x .130in, 8 Lead, .100in Pitch; Supplier 1: Farnell; Supplier Part Number 1: 9488383; RoHS: N; PinCount: 8; Code_JEDEC: MS-001-BA; ComponentLink1Description: LM833 Datasheet; ComponentLink1URL: http://www.national.com/ds/LM/LM833.pdf; ComponentLink2Description: LM833 Web Page; ComponentLink2URL: http://www.national.com/pf/LM/LM833.html; ComponentLink3Description: N08E Package Page; ComponentLink3URL: http://www.national.com/packaging/folders/n08e.html
footprint N08E (DIP, 8-Leads, Row Spacing 7.62mm, Pitch 2.54mm, Body 9.91x6.35mm)
pins: 1 OUT A (out), 2 -IN A (in), 3 +IN A (in), 4 -VEE (power), 5 +IN B (in), 6 -IN B (in), 7 OUT B (out), 8 +VCC (power)

## LM833N/NOPB
designator U?
Dual Audio Operational Amplifier, 8-pin MDIP, Pb-Free; PartNumber: LM833N/NOPB; Manufacturer: National Semiconductor; PackageTopMarking: NSUZXYTTE#*LM*833N; PowerWise: N; CompType: Audio IC; Published: 1-Mar-2010; DatasheetVersion: Jan-2003; PackageVersion: revG, May-2006; PackageReference: N08E; Publisher: Altium Limited; PackageDescription: MDIP, .365 x .250 x .130in, 8 Lead, .100in Pitch; Supplier 1: Digi-Key; Supplier Part Number 1: LM833NNS-ND; Supplier 2: Farnell; Supplier Part Number 2: 1150313; RoHS: Y; PinCount: 8; Code_JEDEC: MS-001-BA; ComponentLink1Description: LM833 Datasheet; ComponentLink1URL: http://www.national.com/ds/LM/LM833.pdf; ComponentLink2Description: LM833 Web Page; ComponentLink2URL: http://www.national.com/pf/LM/LM833.html; ComponentLink3Description: N08E Package Page; ComponentLink3URL: http://www.national.com/packaging/folders/n08e.html
footprint N08E (DIP, 8-Leads, Row Spacing 7.62mm, Pitch 2.54mm, Body 9.91x6.35mm)
pins: 1 OUT A (out), 2 -IN A (in), 3 +IN A (in), 4 -VEE (power), 5 +IN B (in), 6 -IN B (in), 7 OUT B (out), 8 +VCC (power)

## LM837M
designator U?
Low Noise Quad Operational Amplifier, 14-pin Narrow SOIC; PartNumber: LM837M; Manufacturer: National Semiconductor; PackageTopMarking: NSUZXYTTE#*LM837M; PowerWise: Y; CompType: Audio IC; Published: 4-Dec-2008; DatasheetVersion: Aug-2000; PackageVersion: revJ, Jan-1996; PackageReference: M14A; Publisher: Altium Limited; PackageDescription: Molded Package S.O., .150in Wide, 14 Lead; Supplier 1: Farnell; Supplier Part Number 1: 3547700; RoHS: N; PinCount: 14; Code_JEDEC: MS-012AB; Code_IPC: SOIC127P600-14; ComponentLink1Description: LM837 Datasheet; ComponentLink1URL: http://www.national.com/ds/LM/LM837.pdf; ComponentLink2Description: LM837 Web Page; ComponentLink2URL: http://www.national.com/pf/LM/LM837.html; ComponentLink3Description: M14A Package Page; ComponentLink3URL: http://www.national.com/packaging/folders/m14a.html
footprint M14A_N (SOIC, 14-Leads, Body 8.6x3.9mm, Pitch 1.27mm, IPC Medium Density)
footprint M14A_L (SOIC, 14-Leads, Body 8.6x3.9mm, Pitch 1.27mm, IPC High Density)
footprint M14A_M (SOIC, 14-Leads, Body 8.6x3.9mm, Pitch 1.27mm, IPC Low Density)
pins: 1 OUT1 (out), 2 -IN1 (in), 3 +IN1 (in), 4 VCC (power), 5 +IN2 (in), 6 -IN2 (in), 7 OUT2 (out), 8 OUT3 (out), 9 -IN3 (in), 10 +IN3 (in), 11 VEE (power), 12 +IN4 (in), 13 -IN4 (in), 14 OUT4 (out)

## LM837M/NOPB
designator U?
Low Noise Quad Operational Amplifier, 14-pin Narrow SOIC, Pb-Free; PartNumber: LM837M/NOPB; Manufacturer: National Semiconductor; PackageTopMarking: NSUZXYTTE#*LM837M; PowerWise: Y; CompType: Audio IC; Published: 1-Mar-2010; DatasheetVersion: Aug-2000; PackageVersion: revJ, Jan-1996; PackageReference: M14A; Publisher: Altium Limited; PackageDescription: Molded Package S.O., .150in Wide, 14 Lead; Supplier 1: Digi-Key; Supplier Part Number 1: LM837M-ND; Supplier 2: Farnell; Supplier Part Number 2: 1468937; RoHS: Y; PinCount: 14; Code_JEDEC: MS-012AB; Code_IPC: SOIC127P600-14; ComponentLink1Description: LM837 Datasheet; ComponentLink1URL: http://www.national.com/ds/LM/LM837.pdf; ComponentLink2Description: LM837 Web Page; ComponentLink2URL: http://www.national.com/pf/LM/LM837.html; ComponentLink3Description: M14A Package Page; ComponentLink3URL: http://www.national.com/packaging/folders/m14a.html
footprint M14A_N (SOIC, 14-Leads, Body 8.6x3.9mm, Pitch 1.27mm, IPC Medium Density)
footprint M14A_L (SOIC, 14-Leads, Body 8.6x3.9mm, Pitch 1.27mm, IPC High Density)
footprint M14A_M (SOIC, 14-Leads, Body 8.6x3.9mm, Pitch 1.27mm, IPC Low Density)
pins: 1 OUT1 (out), 2 -IN1 (in), 3 +IN1 (in), 4 VCC (power), 5 +IN2 (in), 6 -IN2 (in), 7 OUT2 (out), 8 OUT3 (out), 9 -IN3 (in), 10 +IN3 (in), 11 VEE (power), 12 +IN4 (in), 13 -IN4 (in), 14 OUT4 (out)

## LM837MX
designator U?
Low Noise Quad Operational Amplifier, 14-pin Narrow SOIC; PartNumber: LM837MX; Manufacturer: National Semiconductor; PackageTopMarking: NSUZXYTTE#*LM837M; PowerWise: Y; CompType: Audio IC; Published: 1-Mar-2010; DatasheetVersion: Aug-2000; PackageVersion: revJ, Jan-1996; PackageReference: M14A; Publisher: Altium Limited; PackageDescription: Molded Package S.O., .150in Wide, 14 Lead; RoHS: N; PinCount: 14; Code_JEDEC: MS-012AB; Code_IPC: SOIC127P600-14; ComponentLink1Description: LM837 Datasheet; ComponentLink1URL: http://www.national.com/ds/LM/LM837.pdf; ComponentLink2Description: LM837 Web Page; ComponentLink2URL: http://www.national.com/pf/LM/LM837.html; ComponentLink3Description: M14A Package Page; ComponentLink3URL: http://www.national.com/packaging/folders/m14a.html
footprint M14A_N (SOIC, 14-Leads, Body 8.6x3.9mm, Pitch 1.27mm, IPC Medium Density)
footprint M14A_L (SOIC, 14-Leads, Body 8.6x3.9mm, Pitch 1.27mm, IPC High Density)
footprint M14A_M (SOIC, 14-Leads, Body 8.6x3.9mm, Pitch 1.27mm, IPC Low Density)
pins: 1 OUT1 (out), 2 -IN1 (in), 3 +IN1 (in), 4 VCC (power), 5 +IN2 (in), 6 -IN2 (in), 7 OUT2 (out), 8 OUT3 (out), 9 -IN3 (in), 10 +IN3 (in), 11 VEE (power), 12 +IN4 (in), 13 -IN4 (in), 14 OUT4 (out)

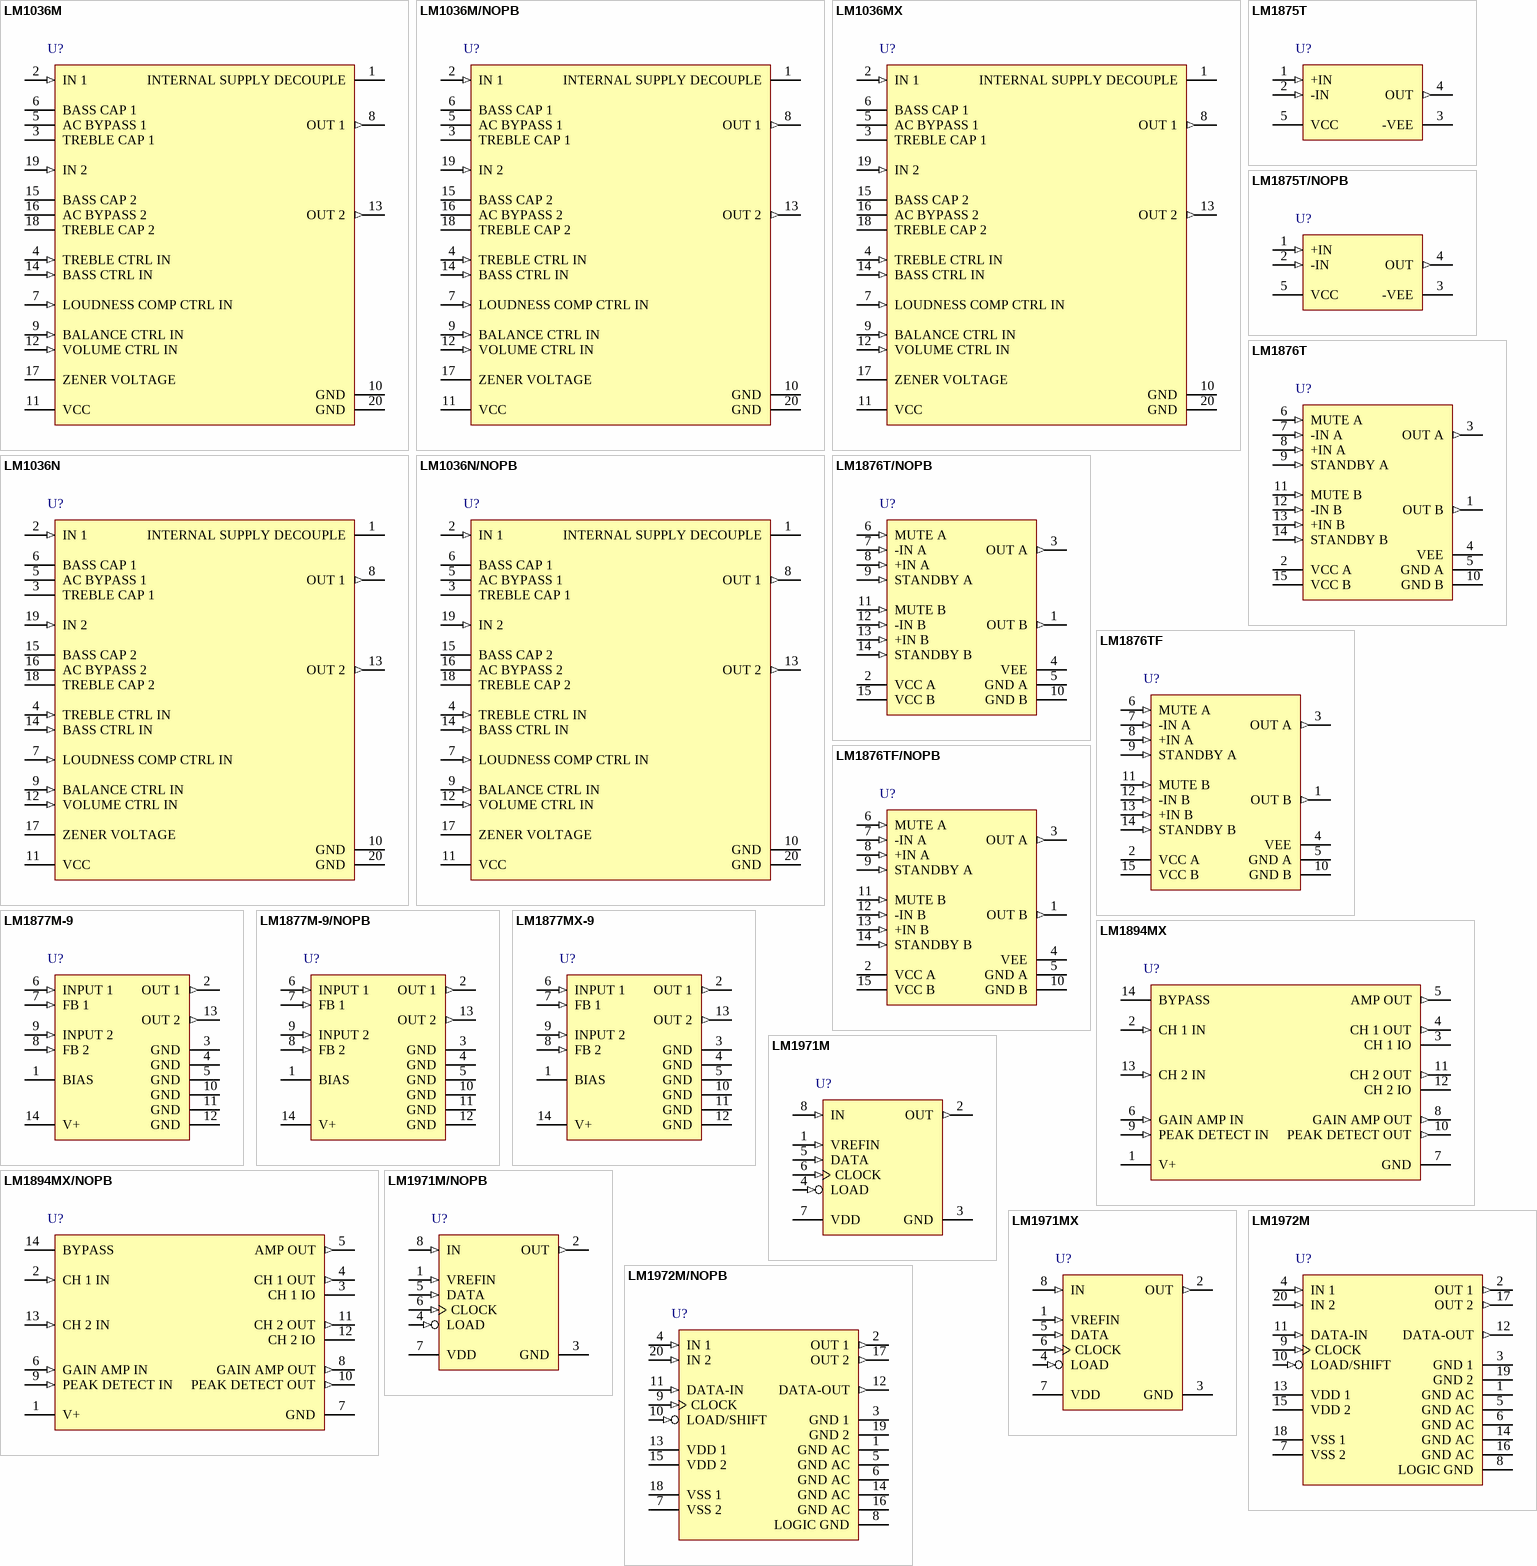
[diagram p1: symbols LM1036M to LM1972M/NOPB]

## LM1036M
designator U?
Dual DC Operated Tone/Volume/Balance Circuit, 20-pin Wide SOIC; PartNumber: LM1036M; Manufacturer: National Semiconductor; PackageTopMarking: NSUZXYTTE#*LM1036M; PowerWise: N; CompType: Audio IC; Published: 4-Dec-2008; DatasheetVersion: Feb-2008; PackageVersion: revG, Jan-1996; PackageReference: M20B; Publisher: Altium Limited; PackageDescription: Molded Package, S0, .300in Wide, 20 Lead; Supplier 1: Farnell; Supplier Part Number 1: 3008708; RoHS: N; PinCount: 20; Code_JEDEC: MS-013-AC; Code_IPC: SOIC127P1030-20; ComponentLink1Description: LM1036 Datasheet; ComponentLink1URL: http://www.national.com/ds/LM/LM1036.pdf; ComponentLink2Description: LM1036 Web Page; ComponentLink2URL: http://www.national.com/pf/LM/LM1036.html; ComponentLink3Description: M20B Package Page; ComponentLink3URL: http://www.national.com/packaging/folders/m20b.html
footprint M20B_N (SOIC, 20-Leads, Body 12.8x7.5mm, Pitch 1.27mm, IPC Medium Density)
footprint M20B_L (SOIC, 20-Leads, Body 12.8x7.5mm, Pitch 1.27mm, IPC High Density)
footprint M20B_M (SOIC, 20-Leads, Body 12.8x7.5mm, Pitch 1.27mm, IPC Low Density)
pins: 1 INTERNAL SUPPLY DECOUPLE, 2 IN 1 (in), 3 TREBLE CAP 1, 4 TREBLE CTRL IN (in), 5 AC BYPASS 1, 6 BASS CAP 1, 7 LOUDNESS COMP CTRL IN (in), 8 OUT 1 (out), 9 BALANCE CTRL IN (in), 10 GND (power), 11 VCC (power), 12 VOLUME CTRL IN (in), 13 OUT 2 (out), 14 BASS CTRL IN (in), 15 BASS CAP 2, 16 AC BYPASS 2, 17 ZENER VOLTAGE, 18 TREBLE CAP 2, 19 IN 2 (in), 20 GND (power)

## LM1036M/NOPB
designator U?
Dual DC Operated Tone/Volume/Balance Circuit, 20-pin Wide SOIC, Pb-Free; PartNumber: LM1036M/NOPB; Manufacturer: National Semiconductor; PackageTopMarking: NSUZXYTTE#*LM1036M; PowerWise: N; CompType: Audio IC; Published: 1-Mar-2010; DatasheetVersion: Feb-2008; PackageVersion: revG, Jan-1996; PackageReference: M20B; Publisher: Altium Limited; PackageDescription: Molded Package, S0, .300in Wide, 20 Lead; Supplier 1: Digi-Key; Supplier Part Number 1: LM1036M-ND; RoHS: Y; PinCount: 20; Code_JEDEC: MS-013-AC; Code_IPC: SOIC127P1030-20; ComponentLink1Description: LM1036 Datasheet; ComponentLink1URL: http://www.national.com/ds/LM/LM1036.pdf; ComponentLink2Description: LM1036 Web Page; ComponentLink2URL: http://www.national.com/pf/LM/LM1036.html; ComponentLink3Description: M20B Package Page; ComponentLink3URL: http://www.national.com/packaging/folders/m20b.html
footprint M20B_N (SOIC, 20-Leads, Body 12.8x7.5mm, Pitch 1.27mm, IPC Medium Density)
footprint M20B_L (SOIC, 20-Leads, Body 12.8x7.5mm, Pitch 1.27mm, IPC High Density)
footprint M20B_M (SOIC, 20-Leads, Body 12.8x7.5mm, Pitch 1.27mm, IPC Low Density)
pins: 1 INTERNAL SUPPLY DECOUPLE, 2 IN 1 (in), 3 TREBLE CAP 1, 4 TREBLE CTRL IN (in), 5 AC BYPASS 1, 6 BASS CAP 1, 7 LOUDNESS COMP CTRL IN (in), 8 OUT 1 (out), 9 BALANCE CTRL IN (in), 10 GND (power), 11 VCC (power), 12 VOLUME CTRL IN (in), 13 OUT 2 (out), 14 BASS CTRL IN (in), 15 BASS CAP 2, 16 AC BYPASS 2, 17 ZENER VOLTAGE, 18 TREBLE CAP 2, 19 IN 2 (in), 20 GND (power)

## LM1036MX
designator U?
Dual DC Operated Tone/Volume/Balance Circuit, 20-pin Wide SOIC; PartNumber: LM1036MX; Manufacturer: National Semiconductor; PackageTopMarking: NSUZXYTTE#*LM1036M; PowerWise: N; CompType: Audio IC; Published: 1-Mar-2010; DatasheetVersion: Feb-2008; PackageVersion: revG, Jan-1996; PackageReference: M20B; Publisher: Altium Limited; PackageDescription: Molded Package, S0, .300in Wide, 20 Lead; RoHS: N; PinCount: 20; Code_JEDEC: MS-013-AC; Code_IPC: SOIC127P1030-20; ComponentLink1Description: LM1036 Datasheet; ComponentLink1URL: http://www.national.com/ds/LM/LM1036.pdf; ComponentLink2Description: LM1036 Web Page; ComponentLink2URL: http://www.national.com/pf/LM/LM1036.html; ComponentLink3Description: M20B Package Page; ComponentLink3URL: http://www.national.com/packaging/folders/m20b.html
footprint M20B_N (SOIC, 20-Leads, Body 12.8x7.5mm, Pitch 1.27mm, IPC Medium Density)
footprint M20B_L (SOIC, 20-Leads, Body 12.8x7.5mm, Pitch 1.27mm, IPC High Density)
footprint M20B_M (SOIC, 20-Leads, Body 12.8x7.5mm, Pitch 1.27mm, IPC Low Density)
pins: 1 INTERNAL SUPPLY DECOUPLE, 2 IN 1 (in), 3 TREBLE CAP 1, 4 TREBLE CTRL IN (in), 5 AC BYPASS 1, 6 BASS CAP 1, 7 LOUDNESS COMP CTRL IN (in), 8 OUT 1 (out), 9 BALANCE CTRL IN (in), 10 GND (power), 11 VCC (power), 12 VOLUME CTRL IN (in), 13 OUT 2 (out), 14 BASS CTRL IN (in), 15 BASS CAP 2, 16 AC BYPASS 2, 17 ZENER VOLTAGE, 18 TREBLE CAP 2, 19 IN 2 (in), 20 GND (power)

## LM1036N
designator U?
Dual DC Operated Tone/Volume/Balance Circuit, 20-pin MDIP; PartNumber: LM1036N; Manufacturer: National Semiconductor; PackageTopMarking: NSUZXYYTTE#*LM1036N; PowerWise: N; CompType: Audio IC; Published: 4-Dec-2008; DatasheetVersion: Feb-2008; PackageVersion: revG, Nov-1984; PackageReference: N20A; Publisher: Altium Limited; PackageDescription: Molded Dip (N) 20 Lead; RoHS: N; PinCount: 20; Code_JEDEC: MS-001-AD; ComponentLink1Description: LM1036 Datasheet; ComponentLink1URL: http://www.national.com/ds/LM/LM1036.pdf; ComponentLink2Description: LM1036 Web Page; ComponentLink2URL: http://www.national.com/pf/LM/LM1036.html; ComponentLink3Description: N20A Package Page; ComponentLink3URL: http://www.national.com/packaging/folders/n20a.html
footprint N20A (DIP, 20-Leads, Row Spacing 7.62mm, Pitch 2.54mm, Body 26.07x6.6mm)
pins: 1 INTERNAL SUPPLY DECOUPLE, 2 IN 1 (in), 3 TREBLE CAP 1, 4 TREBLE CTRL IN (in), 5 AC BYPASS 1, 6 BASS CAP 1, 7 LOUDNESS COMP CTRL IN (in), 8 OUT 1 (out), 9 BALANCE CTRL IN (in), 10 GND (power), 11 VCC (power), 12 VOLUME CTRL IN (in), 13 OUT 2 (out), 14 BASS CTRL IN (in), 15 BASS CAP 2, 16 AC BYPASS 2, 17 ZENER VOLTAGE, 18 TREBLE CAP 2, 19 IN 2 (in), 20 GND (power)

## LM1036N/NOPB
designator U?
Dual DC Operated Tone/Volume/Balance Circuit, 20-pin MDIP, Pb-Free; PartNumber: LM1036N/NOPB; Manufacturer: National Semiconductor; PackageTopMarking: NSUZXYYTTE#*LM1036N; PowerWise: N; CompType: Audio IC; Published: 1-Mar-2010; DatasheetVersion: Feb-2008; PackageVersion: revG, Nov-1984; PackageReference: N20A; Publisher: Altium Limited; PackageDescription: Molded Dip (N) 20 Lead; Supplier 1: Digi-Key; Supplier Part Number 1: LM1036N-ND; Supplier 2: Farnell; Supplier Part Number 2: 1468866; RoHS: Y; PinCount: 20; Code_JEDEC: MS-001-AD; ComponentLink1Description: LM1036 Datasheet; ComponentLink1URL: http://www.national.com/ds/LM/LM1036.pdf; ComponentLink2Description: LM1036 Web Page; ComponentLink2URL: http://www.national.com/pf/LM/LM1036.html; ComponentLink3Description: N20A Package Page; ComponentLink3URL: http://www.national.com/packaging/folders/n20a.html
footprint N20A (DIP, 20-Leads, Row Spacing 7.62mm, Pitch 2.54mm, Body 26.07x6.6mm)
pins: 1 INTERNAL SUPPLY DECOUPLE, 2 IN 1 (in), 3 TREBLE CAP 1, 4 TREBLE CTRL IN (in), 5 AC BYPASS 1, 6 BASS CAP 1, 7 LOUDNESS COMP CTRL IN (in), 8 OUT 1 (out), 9 BALANCE CTRL IN (in), 10 GND (power), 11 VCC (power), 12 VOLUME CTRL IN (in), 13 OUT 2 (out), 14 BASS CTRL IN (in), 15 BASS CAP 2, 16 AC BYPASS 2, 17 ZENER VOLTAGE, 18 TREBLE CAP 2, 19 IN 2 (in), 20 GND (power)

## LM1875T
designator U?
20-W Audio Power Amplifier, 5-pin TO-220; PartNumber: LM1875T; Manufacturer: National Semiconductor; PackageTopMarking: NSUZXYTTE#*LM1875T; PowerWise: N; CompType: Audio IC; Published: 4-Dec-2008; DatasheetVersion: Jul-2002; PackageVersion: revA, Oct-1989; PackageReference: T05D; Publisher: Altium Limited; PackageDescription: TO-220, Molded, Stagger Bend, 5 Lead; Supplier 1: Farnell; Supplier Part Number 1: 9488405; RoHS: N; PinCount: 5; ComponentLink1Description: LM1875 Datasheet; ComponentLink1URL: http://www.national.com/ds/LM/LM1875.pdf; ComponentLink2Description: LM1875 Web Page; ComponentLink2URL: http://www.national.com/pf/LM/LM1875.html; ComponentLink3Description: T05D Package Page; ComponentLink3URL: http://www.national.com/packaging/folders/t05d.html
footprint T05D (TO, Thru-Hole, Vertical, Heatsink Mounted; 5 Bent Staggered Leads; Body 10.3x8.6x4.6mm, Pitch 1.7 mm)
pins: 1 +IN (in), 2 -IN (in), 3 -VEE (power), 4 OUT (out), 5 VCC (power)

## LM1875T/NOPB
designator U?
20-W Audio Power Amplifier, 5-pin TO-220, Pb-Free; PartNumber: LM1875T/NOPB; Manufacturer: National Semiconductor; PackageTopMarking: NSUZXYTTE#*LM1875T; PowerWise: N; CompType: Audio IC; Published: 1-Mar-2010; DatasheetVersion: Jul-2002; PackageVersion: revA, Oct-1989; PackageReference: T05D; Publisher: Altium Limited; PackageDescription: TO-220, Molded, Stagger Bend, 5 Lead; Supplier 1: Digi-Key; Supplier Part Number 1: LM1875T-ND; Supplier 2: Farnell; Supplier Part Number 2: 1468913; RoHS: Y; PinCount: 5; ComponentLink1Description: LM1875 Datasheet; ComponentLink1URL: http://www.national.com/ds/LM/LM1875.pdf; ComponentLink2Description: LM1875 Web Page; ComponentLink2URL: http://www.national.com/pf/LM/LM1875.html; ComponentLink3Description: T05D Package Page; ComponentLink3URL: http://www.national.com/packaging/folders/t05d.html
footprint T05D (TO, Thru-Hole, Vertical, Heatsink Mounted; 5 Bent Staggered Leads; Body 10.3x8.6x4.6mm, Pitch 1.7 mm)
pins: 1 +IN (in), 2 -IN (in), 3 -VEE (power), 4 OUT (out), 5 VCC (power)

## LM1876T
designator U?
Overture Audio Power Amplifier Series Dual 20-Watt Audio Power Amplifier with Mute and Standby Modes, 15-pin TO-220; PartNumber: LM1876T; Manufacturer: National Semiconductor; PackageTopMarking: NSUZXYTTE#*LM1876T; PowerWise: N; CompType: Audio IC; Published: 4-Dec-2008; DatasheetVersion: Jul-2003; PackageVersion: revA, Nov-1985; PackageReference: TA15A; Publisher: Altium Limited; PackageDescription: TO-220, Molded, .788 x .421in Body, 15 Lead, .05in Pitch; RoHS: N; PinCount: 15; ComponentLink1Description: LM1876 Datasheet; ComponentLink1URL: http://www.national.com/ds/LM/LM1876.pdf; ComponentLink2Description: LM1876 Web Page; ComponentLink2URL: http://www.national.com/pf/LM/LM1876.html; ComponentLink3Description: TA15A Package Page; ComponentLink3URL: http://www.national.com/packaging/folders/ta15a.html
footprint TA15A (TO, Thru-Hole, Vertical, Heatsink Mounted; 15 Bent Staggered Leads; Body 20x10.7x4.5mm, Pitch 1.27 mm)
pins: 1 OUT B (out), 2 VCC A (power), 3 OUT A (out), 4 VEE (power), 5 GND A (power), 6 MUTE A (in), 7 -IN A (in), 8 +IN A (in), 9 STANDBY A (in), 10 GND B (power), 11 MUTE B (in), 12 -IN B (in), 13 +IN B (in), 14 STANDBY B (in), 15 VCC B (power)

## LM1876T/NOPB
designator U?
Overture Audio Power Amplifier Series Dual 20-Watt Audio Power Amplifier with Mute and Standby Modes, 15-pin TO-220, Pb-Free; PartNumber: LM1876T/NOPB; Manufacturer: National Semiconductor; PackageTopMarking: NSUZXYTTE#*LM1876T; PowerWise: N; CompType: Audio IC; Published: 1-Mar-2010; DatasheetVersion: Jul-2003; PackageVersion: revA, Nov-1985; PackageReference: TA15A; Publisher: Altium Limited; PackageDescription: TO-220, Molded, .788 x .421in Body, 15 Lead, .05in Pitch; Supplier 1: Digi-Key; Supplier Part Number 1: LM1876T-ND; Supplier 2: Farnell; Supplier Part Number 2: 1694516; RoHS: Y; PinCount: 15; ComponentLink1Description: LM1876 Datasheet; ComponentLink1URL: http://www.national.com/ds/LM/LM1876.pdf; ComponentLink2Description: LM1876 Web Page; ComponentLink2URL: http://www.national.com/pf/LM/LM1876.html; ComponentLink3Description: TA15A Package Page; ComponentLink3URL: http://www.national.com/packaging/folders/ta15a.html
footprint TA15A (TO, Thru-Hole, Vertical, Heatsink Mounted; 15 Bent Staggered Leads; Body 20x10.7x4.5mm, Pitch 1.27 mm)
pins: 1 OUT B (out), 2 VCC A (power), 3 OUT A (out), 4 VEE (power), 5 GND A (power), 6 MUTE A (in), 7 -IN A (in), 8 +IN A (in), 9 STANDBY A (in), 10 GND B (power), 11 MUTE B (in), 12 -IN B (in), 13 +IN B (in), 14 STANDBY B (in), 15 VCC B (power)